# EAGLE library part USBTOUART (library piccircuit)
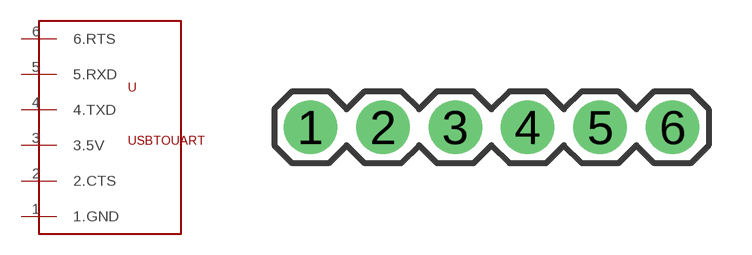
[diagram p1: symbol with the pads of 1X06; footprint 1X06]

Designator prefix -

## USBTOUART  [1X06]
1  1.GND
2  2.CTS
3  3.5V
4  4.TXD
5  5.RXD
6  6.RTS

## Footprint 1X06 (pad centres in mm)
Plated Through Hole - 6 Pin Specifications: Pin count:6 Pin pitch:0.1" Example device(s): CONN_06
drill 1.016 pad 1.88: 1 0,0; 2 2.54,0; 3 5.08,0; 4 7.62,0; 5 10.16,0; 6 12.7,0